# Altium footprint library SHDR2W70P0X500_1X2_1000X750X1160P.PcbLib: 1 footprints
Each footprint in its own frame and in the unit in brackets; x right, y up, seen from the top. Pads: shape width x height; smd on the part's side, far side on the other; paste and mask are expansions set on the pad; w line width, h text height; cw(c..) or ccw(c..) is an arc to the next point about the centre after c.
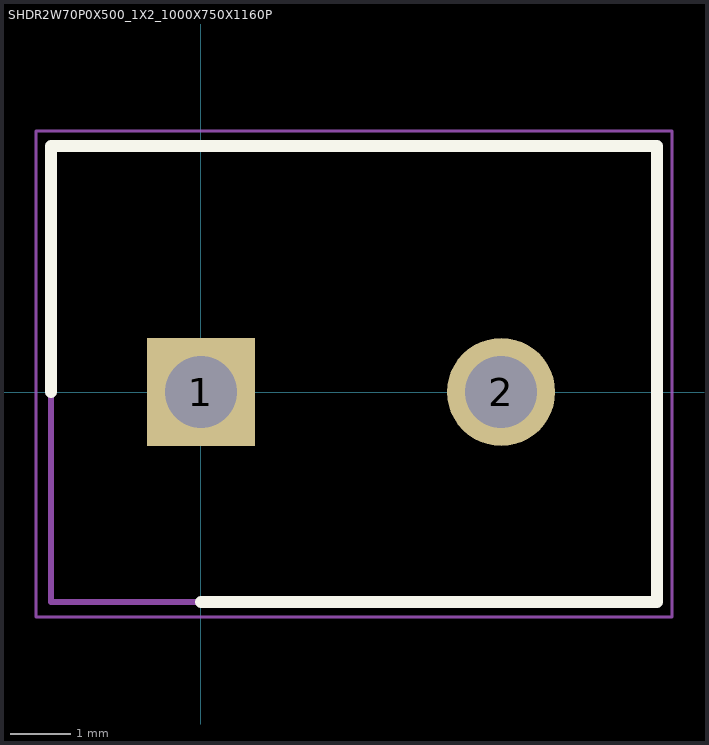
[diagram p0: the footprint, top view; thin cyan lines are the x and y axes]

## SHDR2W70P0X500_1X2_1000X750X1160P [mm]
pads (2):
  rect 1.8x1.8 / inner round 1.8 / far side rect 1.8x1.8 hole 1.2: 1(0,0)
  round 1.8 hole 1.2: 2(5,0)
Top Overlay:
  lines w0.2: -2.5,0 -2.5,4.1 7.6,4.1 7.6,-3.5 0,-3.5
Mechanical 15:
  lines w0.1: -2.5,-3.5 -2.5,4.1 7.6,4.1 7.6,-3.5 -2.5,-3.5
Mechanical 20:
  lines w0.05: -2.75,-3.75 -2.75,4.35 7.85,4.35 7.85,-3.75 -2.75,-3.75